# EAGLE library part XC9572XL-VQ64 (library xsa-200)
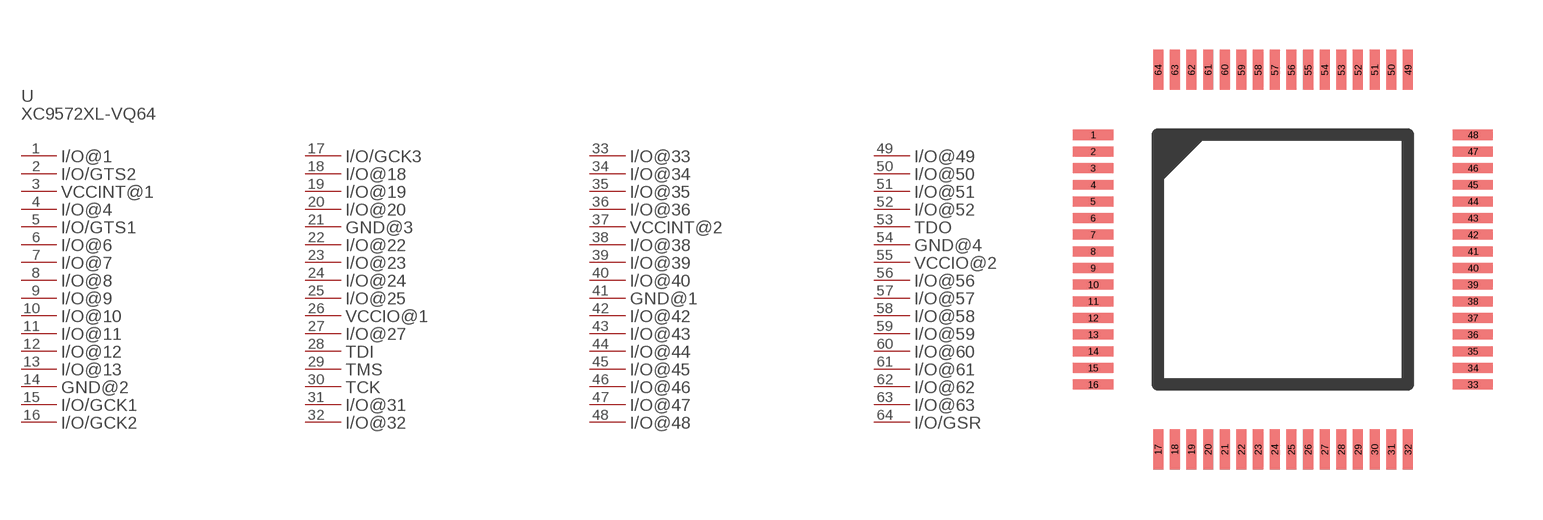
[diagram p4: symbol with the pads of XC9572XL-VQ64; footprint XC9572XL-VQ64]

Designator prefix U; gates PART_VALUE=PART_VALUE-XC9572XL-VQ64 I/O@1=PL-XC9572XL-VQ64 I/O/GTS2=PL-XC9572XL-VQ64 VCCINT@1=PL-XC9572XL-VQ64 I/O@4=PL-XC9572XL-VQ64 I/O/GTS1=PL-XC9572XL-VQ64 I/O@6=PL-XC9572XL-VQ64 I/O@7=PL-XC9572XL-VQ64 I/O@8=PL-XC9572XL-VQ64 I/O@9=PL-XC9572XL-VQ64 I/O@10=PL-XC9572XL-VQ64 I/O@11=PL-XC9572XL-VQ64 I/O@12=PL-XC9572XL-VQ64 I/O@13=PL-XC9572XL-VQ64 GND@2=PL-XC9572XL-VQ64 I/O/GCK1=PL-XC9572XL-VQ64 I/O/GCK2=PL-XC9572XL-VQ64 I/O/GCK3=PL-XC9572XL-VQ64 I/O@18=PL-XC9572XL-VQ64 I/O@19=PL-XC9572XL-VQ64 I/O@20=PL-XC9572XL-VQ64 GND@3=PL-XC9572XL-VQ64 I/O@22=PL-XC9572XL-VQ64 I/O@23=PL-XC9572XL-VQ64 I/O@24=PL-XC9572XL-VQ64 I/O@25=PL-XC9572XL-VQ64 VCCIO@1=PL-XC9572XL-VQ64 I/O@27=PL-XC9572XL-VQ64 TDI=PL-XC9572XL-VQ64 TMS=PL-XC9572XL-VQ64 TCK=PL-XC9572XL-VQ64 I/O@31=PL-XC9572XL-VQ64 I/O@32=PL-XC9572XL-VQ64 I/O@33=PL-XC9572XL-VQ64 I/O@34=PL-XC9572XL-VQ64 I/O@35=PL-XC9572XL-VQ64 I/O@36=PL-XC9572XL-VQ64 VCCINT@2=PL-XC9572XL-VQ64 I/O@38=PL-XC9572XL-VQ64 I/O@39=PL-XC9572XL-VQ64 I/O@40=PL-XC9572XL-VQ64 GND@1=PL-XC9572XL-VQ64 I/O@42=PL-XC9572XL-VQ64 I/O@43=PL-XC9572XL-VQ64 I/O@44=PL-XC9572XL-VQ64 I/O@45=PL-XC9572XL-VQ64 I/O@46=PL-XC9572XL-VQ64 I/O@47=PL-XC9572XL-VQ64 I/O@48=PL-XC9572XL-VQ64 I/O@49=PL-XC9572XL-VQ64 I/O@50=PL-XC9572XL-VQ64 I/O@51=PL-XC9572XL-VQ64 I/O@52=PL-XC9572XL-VQ64 TDO=PL-XC9572XL-VQ64 GND@4=PL-XC9572XL-VQ64 VCCIO@2=PL-XC9572XL-VQ64 I/O@56=PL-XC9572XL-VQ64 I/O@57=PL-XC9572XL-VQ64 I/O@58=PL-XC9572XL-VQ64 I/O@59=PL-XC9572XL-VQ64 I/O@60=PL-XC9572XL-VQ64 I/O@61=PL-XC9572XL-VQ64 I/O@62=PL-XC9572XL-VQ64 I/O@63=PL-XC9572XL-VQ64 I/O/GSR=PL-XC9572XL-VQ64

## XC9572XL-VQ64  [XC9572XL-VQ64]
1  I/O@1:P$1
2  I/O/GTS2:P$1
3  VCCINT@1:P$1
4  I/O@4:P$1
5  I/O/GTS1:P$1
6  I/O@6:P$1
7  I/O@7:P$1
8  I/O@8:P$1
9  I/O@9:P$1
10  I/O@10:P$1
11  I/O@11:P$1
12  I/O@12:P$1
13  I/O@13:P$1
14  GND@2:P$1
15  I/O/GCK1:P$1
16  I/O/GCK2:P$1
17  I/O/GCK3:P$1
18  I/O@18:P$1
19  I/O@19:P$1
20  I/O@20:P$1
21  GND@3:P$1
22  I/O@22:P$1
23  I/O@23:P$1
24  I/O@24:P$1
25  I/O@25:P$1
26  VCCIO@1:P$1
27  I/O@27:P$1
28  TDI:P$1
29  TMS:P$1
30  TCK:P$1
31  I/O@31:P$1
32  I/O@32:P$1
33  I/O@33:P$1
34  I/O@34:P$1
35  I/O@35:P$1
36  I/O@36:P$1
37  VCCINT@2:P$1
38  I/O@38:P$1
39  I/O@39:P$1
40  I/O@40:P$1
41  GND@1:P$1
42  I/O@42:P$1
43  I/O@43:P$1
44  I/O@44:P$1
45  I/O@45:P$1
46  I/O@46:P$1
47  I/O@47:P$1
48  I/O@48:P$1
49  I/O@49:P$1
50  I/O@50:P$1
51  I/O@51:P$1
52  I/O@52:P$1
53  TDO:P$1
54  GND@4:P$1
55  VCCIO@2:P$1
56  I/O@56:P$1
57  I/O@57:P$1
58  I/O@58:P$1
59  I/O@59:P$1
60  I/O@60:P$1
61  I/O@61:P$1
62  I/O@62:P$1
63  I/O@63:P$1
64  I/O/GSR:P$1

## Footprint XC9572XL-VQ64 (pad centres in mm)
smd 1.2 x 0.3: 1 0,0; 2 0,-0.5; 3 0,-1; 4 0,-1.5; 5 0,-2; 6 0,-2.5; 7 0,-3; 8 0,-3.5; 9 0,-4; 10 0,-4.5; 11 0,-5; 12 0,-5.5; 13 0,-6; 14 0,-6.5; 15 0,-7; 16 0,-7.5; 33 11.4,-7.5; 34 11.4,-7; 35 11.4,-6.5; 36 11.4,-6; 37 11.4,-5.5; 38 11.4,-5; 39 11.4,-4.5; 40 11.4,-4; 41 11.4,-3.5; 42 11.4,-3; 43 11.4,-2.5; 44 11.4,-2; 45 11.4,-1.5; 46 11.4,-1; 47 11.4,-0.5; 48 11.4,0
smd 0.3 x 1.2: 17 1.95,-9.45; 18 2.45,-9.45; 19 2.95,-9.45; 20 3.45,-9.45; 21 3.95,-9.45; 22 4.45,-9.45; 23 4.95,-9.45; 24 5.45,-9.45; 25 5.95,-9.45; 26 6.45,-9.45; 27 6.95,-9.45; 28 7.45,-9.45; 29 7.95,-9.45; 30 8.45,-9.45; 31 8.95,-9.45; 32 9.45,-9.45; 49 9.45,1.95; 50 8.95,1.95; 51 8.45,1.95; 52 7.95,1.95; 53 7.45,1.95; 54 6.95,1.95; 55 6.45,1.95; 56 5.95,1.95; 57 5.45,1.95; 58 4.95,1.95; 59 4.45,1.95; 60 3.95,1.95; 61 3.45,1.95; 62 2.95,1.95; 63 2.45,1.95; 64 1.95,1.95